# EAGLE library part MAX74* (library maxim-filter)
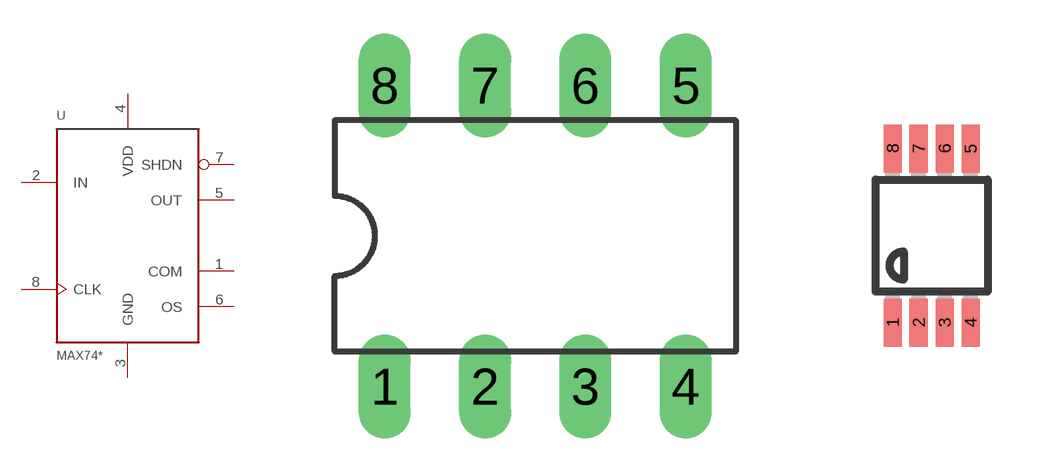
[diagram p0: symbol with the pads of DIL08; footprints DIL08, UMAX8]

Designator prefix U

## MAX7409CPA, MAX7410CPA, MAX7413CPA, MAX7414CPA  [DIL08]
1  COM  in
2  IN  in
3  GND  pwr
4  VDD  pwr
5  OUT  out
6  OS  in
7  SHDN  in
8  CLK  in

## MAX7409CUA, MAX7410CUA, MAX7413CUA, MAX7414CUA, MAX7418CUA, MAX7419CUA, MAX7420CUA, MAX7421CUA, MAX7422CUA, MAX7423CUA, MAX7424CUA, MAX7425CUA  [UMAX8]
Pads as for DIL08

## MAX7418EUA, MAX7419EUA, MAX7420EUA, MAX7421EUA, MAX7422EUA, MAX7423EUA, MAX7424EUA, MAX7425EUA  [UMAX8]
Pads as for DIL08

## Footprint DIL08 (pad centres in mm)
Dual In Line Package
drill 0.813 long: 1 -3.81,-3.81; 2 -1.27,-3.81; 3 1.27,-3.81; 4 3.81,-3.81; 5 3.81,3.81; 6 1.27,3.81; 7 -1.27,3.81; 8 -3.81,3.81

## Footprint UMAX8 (pad centres in mm)
micro MAX Package
smd 0.45 x 1.2: 1 -0.975,-2.175; 2 -0.325,-2.175; 3 0.325,-2.175; 4 0.975,-2.175; 5 0.975,2.175; 6 0.325,2.175; 7 -0.325,2.175; 8 -0.975,2.175